# Altium schematic symbol library IP5310.SchLib: 1 symbol
Pins are listed as number, name and electrical type; pins without a type are passive.

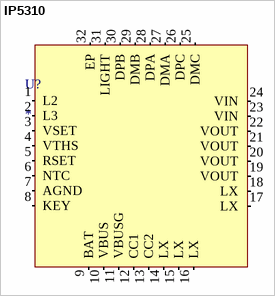
[diagram p0: symbol IP5310]

## IP5310
designator U?
footprint QFN32 5X5X0.85
pins: 1 L2, 2 L3, 3 VSET, 4 VTHS, 5 RSET, 6 NTC, 7 AGND, 8 KEY, 9 BAT, 10 VBUS, 11 VBUSG, 12 CC1, 13 CC2, 14 LX, 15 LX, 16 LX, 17 LX, 18 LX, 19 VOUT, 20 VOUT, 21 VOUT, 22 VOUT, 23 VIN, 24 VIN, 25 DMC, 26 DPC, 27 DMA, 28 DPA, 29 DMB, 30 DPB, 31 LIGHT, 32 EP